# Altium schematic symbol library Thyristors.SchLib: 2 symbols
Pins are listed as number, name and electrical type; pins without a type are passive.

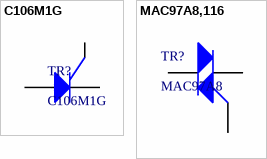
[diagram p0: symbols C106M1G to MAC97A8,116]

## C106M1G
designator TR?
SCR 600V 4A TO225AA; Manufacturer: Littelfuse; Package Body Material: Plastic; Case Connection: ANODE; Number of Elements: 1; Surface Mount: No; JEDEC-95 Code: TO-225AA; Qualification Status: Not Qualified; Supplier: Digikey; Supplier Part Number: C106M1GOS-ND; Manufacturer Part Number: C106M1G; RoHS: Yes; Category: SCRs; Stock: 40866; Pricing: 1=0.5, 10=0.429, 100=0.2971, 500=0.24828, 1000=0.2325 (USD); Pins: 3; Package Shape: Rectangular; JESD-30 Code: R-PSFM-T3; Package Style: FLANGE MOUNTMeter; Repetitive Peak Off-state Voltage: 600V; Max Repetitive Reverse Voltage (Vrrm): 600V; RMS Current (Irms): 4A; Terminal Form: Through Hole; Terminal Position: SINGLE; RoHS Compliant: Yes; ComponentLink1URL: https://datasheet.ciiva.com:443/pdfs/VipMasterIC/IC/LFSI/LFSI-S-A0008594447/LFSI-S-A0008594447-1.pdf?src-supplier=IHS+Markit; ComponentLink1Description: https://datasheet.ciiva.com:443/pdfs/VipMasterIC/IC/LFSI/LFSI-S-A0008594447/LFSI-S-A0008594447-1.pdf?src-supplier=IHS+Markit; ComponentLink2URL: http://www.farnell.com/datasheets/2240143.pdf?src-supplier=Farnell; ComponentLink2Description: http://www.farnell.com/datasheets/2240143.pdf?src-supplier=Farnell; ComponentLink3URL: https://datasheet.octopart.com/C106M1G-Littelfuse-datasheet-78833674.pdf?src-supplier=Newark; ComponentLink3Description: https://datasheet.octopart.com/C106M1G-Littelfuse-datasheet-78833674.pdf?src-supplier=Newark; ComponentLink4URL: https://datasheet.octopart.com/C106M1G-Littelfuse-datasheet-141009082.pdf?src-supplier=Future+Electronics; ComponentLink4Description: https://datasheet.octopart.com/C106M1G-Littelfuse-datasheet-141009082.pdf?src-supplier=Future+Electronics; ComponentLink5URL: https://datasheet.octopart.com/C106M1G-Littelfuse-datasheet-99452970.pdf?src-supplier=TME; ComponentLink5Description: https://datasheet.octopart.com/C106M1G-Littelfuse-datasheet-99452970.pdf?src-supplier=TME
footprint TO-225AA
pins: 1 K, 2 A, 3 G

## MAC97A8,116
designator TR?, comment MAC97A8
TRIAC SENS GATE 600V 0.6A TO92-3; Manufacturer: WeEn Semiconductors; Manufacturer Part Number: MAC97A8,116; Supplier: Digikey; Supplier Part Number: 1740-1189-1-ND; Stock: 45907; Pricing: 1=0.44, 10=0.34, 100=0.204, 500=0.18888, 1000=0.12843 (USD); ComponentLink1URL: https://datasheet.octopart.com/MAC97A8%2C116-WeEn-Semiconductors-datasheet-101752749.pdf?src-supplier=TME; ComponentLink1Description: https://datasheet.octopart.com/MAC97A8%2C116-WeEn-Semiconductors-datasheet-101752749.pdf?src-supplier=TME; ComponentLink2URL: https://datasheet.octopart.com/MAC97A8%2C116-WeEn-Semiconductors-datasheet-142675607.pdf?src-supplier=TME; ComponentLink2Description: https://datasheet.octopart.com/MAC97A8%2C116-WeEn-Semiconductors-datasheet-142675607.pdf?src-supplier=TME; ComponentLink3URL: https://datasheet.octopart.com/MAC97A8%2C116-WeEn-Semiconductors-datasheet-136394747.pdf?src-supplier=TME; ComponentLink3Description: https://datasheet.octopart.com/MAC97A8%2C116-WeEn-Semiconductors-datasheet-136394747.pdf?src-supplier=TME
footprint TO-92-3-V2
pins: 1 T2, 2 G, 3 T1